# Altium schematic symbol library OSC.SchLib: 10 symbols
Pins are listed as number, name and electrical type; pins without a type are passive.

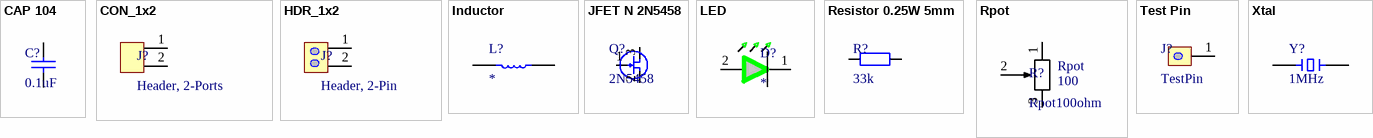
[diagram p0: symbols CAP 104 to Xtal]

## CAP 104
designator C?, comment 0.1uF
104 cap
footprint CAP4.5mm
pins: 1, 2

## CON_1x2
designator J?, comment Header, 2-Ports
Connector, 2-Ports
footprint HDR_1X2_TE (282836-2)
pins: 1, 2

## HDR_1x2
designator J?, comment Header, 2-Pin
footprint HDR_1x2_pin
pins: 1, 2

## Inductor
designator L?
footprint Inductor1
pins: 1, 2

## JFET N 2N5458
designator Q?, comment 2N5458
footprint 2N5458 (Jfet)
pins: 1, 2 S, 3 D

## LED
designator D?
footprint LED
pins: 1, 2

## Resistor 0.25W 5mm
designator R?, comment 33k
0.25W,Axial
footprint Resistor (Res_2mm_AxialTH)
pins: 1, 2

## Rpot
designator R?, comment Rpot100ohm
footprint Potentiometer
pins: 1, 2, 3
text: 100

## Test Pin
designator J?, comment TestPin
footprint HDR_1x1_pin
pins: 1

## Xtal
designator Y?, comment 1MHz
footprint XTAL
pins: 1, 2